# Altium footprint library roboARM.PcbLib: 17 footprints (part 1 of 2)
Each footprint in its own frame and in the unit in brackets; x right, y up, seen from the top. Pads: shape width x height; smd on the part's side, far side on the other; paste and mask are expansions set on the pad; w line width, h text height; cw(c..) or ccw(c..) is an arc to the next point about the centre after c.
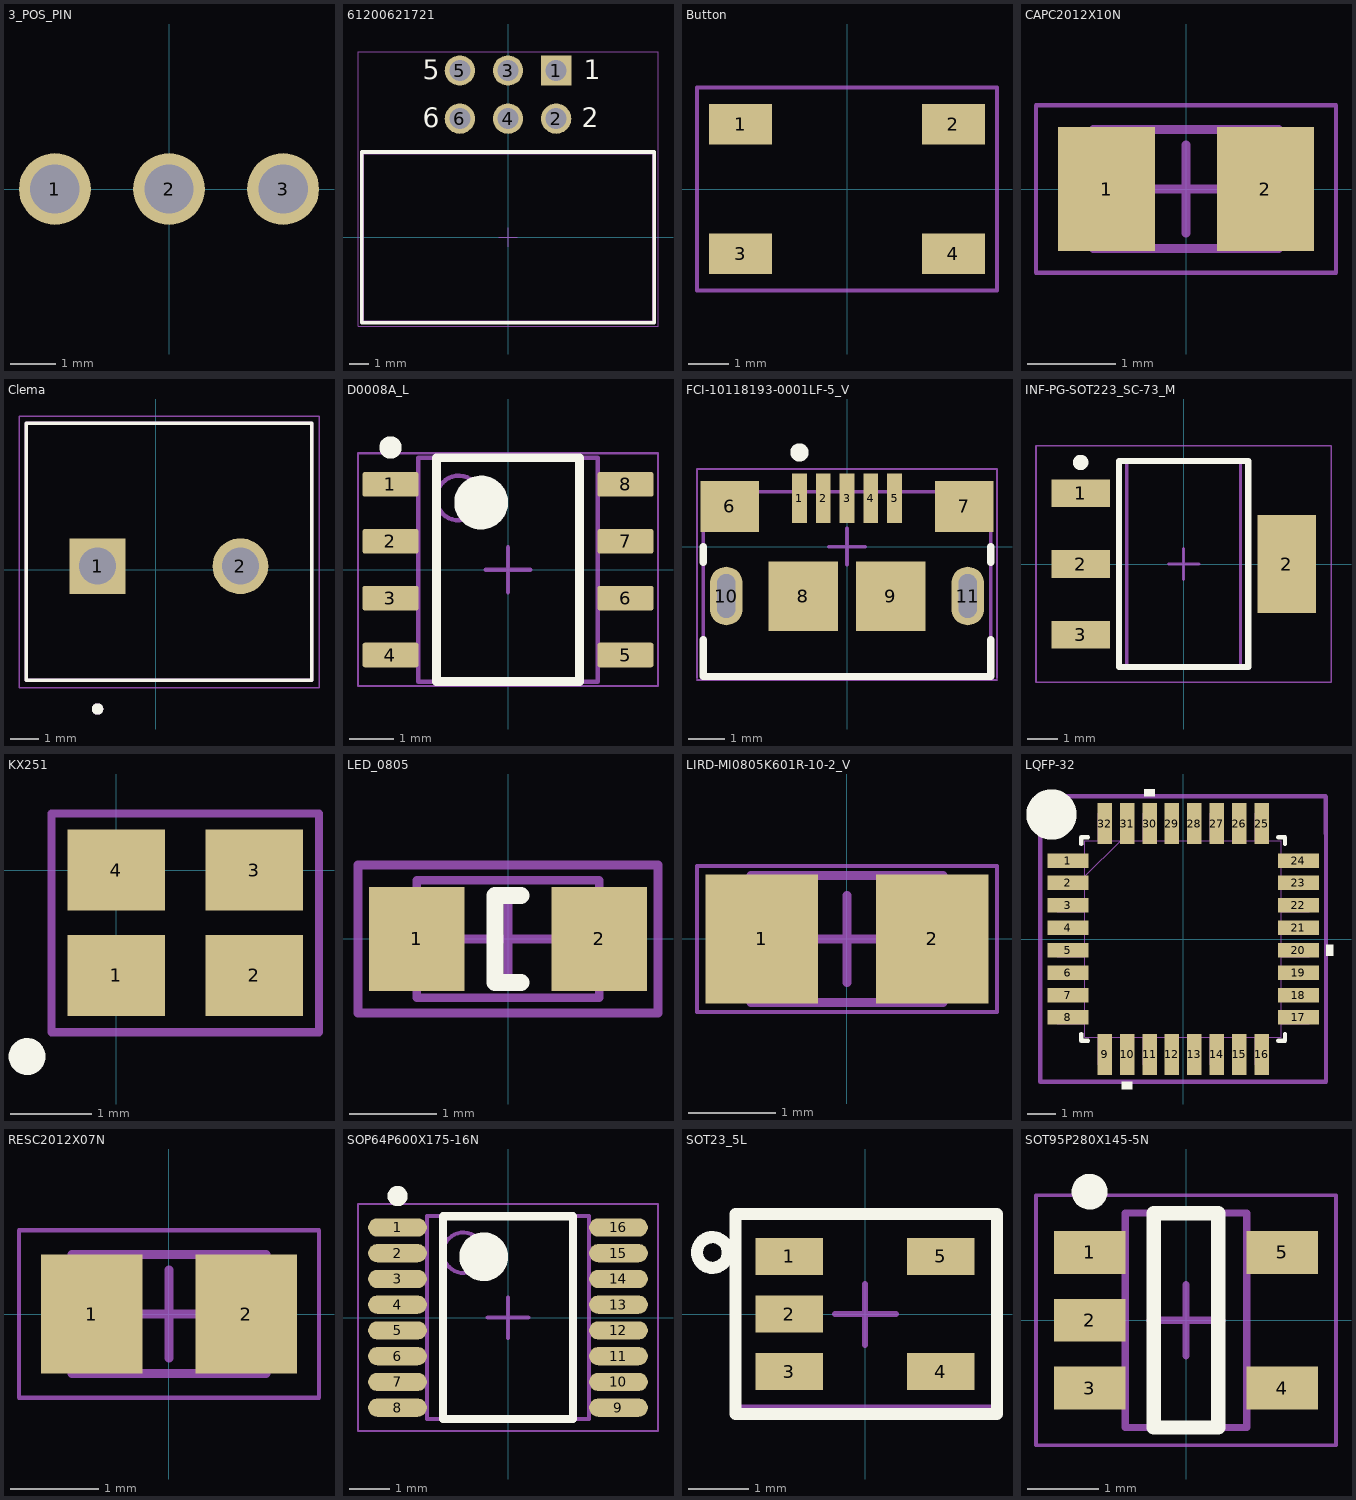
[diagram p0: the footprints below, top view; thin cyan lines are the x and y axes]

## 3_POS_PIN [mm]
pads (3):
  round 1.6 hole 1.1: 1(-2.54,0) 2(0,0) 3(2.54,0)
3D body "PR20C03VBDN.STEP": height 8.64, standoff -3, extent -3.81,-1.165 3.81,1.375

## 61200621721 [mm] "6 pins, right angled, gold plating"
height 9.1
pads (6):
  rect 1.6x1.6 hole 1.1: 1(2.54,8.805)
  round 1.6 hole 1.1: 2(2.54,6.265) 3(0,8.805) 4(0,6.265) 5(-2.54,8.805) 6(-2.54,6.265)
Top Overlay:
  lines w0.2: -7.715,-4.5 7.715,-4.5 7.715,4.5 -7.715,4.5 -7.715,-4.5
  text "6" at -4.5,5.8 h1.02
  text "1" at 4,8.34 h1.02
  text "2" at 3.9,5.8 h1.02
  text "5" at -4.5,8.34 h1.02
Mechanical 13:
  lines w0.1: -7.64,-4.425 7.64,-4.425 7.64,4.425 -7.64,4.425 -7.64,-4.425
Mechanical 15:
  lines w0.05: -0.5,0 0.5,0 ; 0,-0.5 0,0.5 ; -7.915,-4.7 -7.915,9.805 7.915,9.805 7.915,-4.7 -7.915,-4.7
3D body "61200621721.stp": height 9.23, standoff -2.88, extent -7.64,-4.425 7.64,9.125

## Button [mm]
pads (4):
  rect 1.55x1 smd: 1(-2.625,1.6) 2(2.625,1.6) 3(-2.625,-1.6) 4(2.625,-1.6)
Mechanical 15:
  lines w0.1: -3.7,-2.5 3.7,-2.5 3.7,2.5 -3.7,2.5 -3.7,-2.5
3D body "Tact Switch SMD 4.5x4.5mm.stp": height 3.8, standoff 0, extent -3.75,-2.25 3.75,2.25

## CAPC2012X10N [mm] "Chip Capacitor, 2-Leads, Body 2,00x1,25mm, IPC Medium Density"
height 1
pads (2):
  rect 1.1x1.4 smd: 1(-0.9,0) 2(0.9,0)
Mechanical 13:
  lines w0.1: -1.05,-0.675 -1.05,0.675 1.05,0.675 1.05,-0.675 -1.05,-0.675
Mechanical 15:
  lines w0.05: -1.7,-0.95 -1.7,0.95 1.7,0.95 1.7,-0.95 -1.7,-0.95
  lines w0.1: -0.5,0 0.5,0 ; 0,-0.5 0,0.5
3D body "CAPC2012X10N.step": height 1, standoff 0, extent -1.05,-0.675 1.05,0.675

## Clema [mm]
pads (2):
  rect 1.95x1.95 hole 1.3: 1(-2.032,0.127)
  round 1.95 hole 1.3: 2(2.968,0.127)
Top Overlay:
  circle w0.2: c-2.032,-4.873 r0.1
  lines w0.127: -4.532,-3.873 5.468,-3.873 5.468,5.127 -4.532,5.127 -4.532,-3.873
Mechanical 13:
  circle w0.2: c-2.032,-4.873 r0.1
  circle w0.2: c-2.032,-4.873 r0.1
  lines w0.127: -4.532,-3.873 5.468,-3.873 ; -4.532,-3.873 -4.532,5.127 ; -4.532,-3.873 5.468,-3.873 ; -4.532,-3.873 -4.532,5.127 ; -4.532,5.127 5.468,5.127 ; -4.532,5.127 5.468,5.127 ; 5.468,-3.873 5.468,5.127 ; 5.468,-3.873 5.468,5.127
Mechanical 15:
  lines w0.05: -4.782,-4.123 -4.782,5.377 5.718,5.377 5.718,-4.123 -4.782,-4.123
3D body "CUI_DEVICES_TB001-500-P02BE.step": height 12.5, standoff -4.4, extent -5.039,-3.865 5.461,5.135

## D0008A_L [mm] "SOIC, 8-Leads, Body 5x4mm, Pitch 1.27mm, IPC High Density"
height 1.75
pads (8):
  rrect18% 1.25x0.55 smd: 1(-2.625,1.905) 2(-2.625,0.635) 3(-2.625,-0.635) 4(-2.625,-1.905) 5(2.625,-1.905) 6(2.625,-0.635) 7(2.625,0.635) 8(2.625,1.905)
Top Overlay:
  circle w0.6: c-0.6,1.5 r0.3
  circle w0.25: c-2.625,2.73 r0.125
  lines w0.2: -1.6,-2.5 1.6,-2.5 1.6,2.5 -1.6,2.5 -1.6,-2.5
Mechanical 13:
  circle w0.1: c-1.1,1.6 r0.5
  lines w0.1: -2,-2.5 2,-2.5 2,2.5 -2,2.5 -2,-2.5
Mechanical 15:
  lines w0.05: -3.35,-2.6 3.35,-2.6 3.35,2.6 -3.35,2.6 -3.35,-2.6
  lines w0.1: -0.5,0 0.5,0 ; 0,-0.5 0,0.5
3D body "SOIC-8akaD0008AakaM08A.stp": height 1.63, standoff 0, extent -3,-2.45 3,2.45

## FCI-10118193-0001LF-5_V [mm] "Micro, USB-B, 5-Leads, Body 7.86x5.05mm, Pitch 0.65 mm"
pads (11):
  rect 0.4x1.35 smd: 1(-1.3,1.325) 2(-0.65,1.325) 3(0,1.325) 4(0.65,1.325) 5(1.3,1.325)
  rect 1.6x1.4 smd: 6(-3.2,1.1) 7(3.2,1.1)
  rect 1.9x1.9 smd: 8(-1.2,-1.35) 9(1.2,-1.35)
  oval 0.9x1.6 hole 0.5 slot 1.2 at 90 deg: 10(-3.3,-1.35) 11(3.3,-1.35)
Top Overlay:
  circle w0.25: c-1.3,2.575 r0.125
  lines w0.2: -3.93,-2.537 -3.93,-3.55 3.93,-3.55 3.93,-2.537 ; -3.93,-0.428 -3.93,0 ; 3.93,-0.428 3.93,0
Mechanical 13:
  lines w0.1: -3.93,-3.55 3.93,-3.55 3.93,1.5 -3.93,1.5 -3.93,-3.55
Mechanical 15:
  lines w0.05: -4.1,-3.65 4.1,-3.65 ; -4.1,-3.6 -4.1,2.125 4.1,2.125 4.1,-3.6
  lines w0.1: -0.5,0 0.5,0 ; 0,-0.5 0,0.5
3D body "10118193-0001lfc.stp": height 2.83, standoff -0.77, extent -3.928,-4.16 3.929,1.5

## INF-PG-SOT223_SC-73_M [mm] "SOT223, 4-Leads, Body 6.5x3.5mm, Pitch 2.3mm, IPC Low Density"
height 1.8
pads (4):
  rect 1.9x0.9 smd: 1(-3.35,2.3) 2(-3.35,0) 3(-3.35,-2.3)
  rect 1.9x3.2 smd: 2(3.35,0)
Top Overlay:
  circle w0.25: c-3.35,3.3 r0.125
  lines w0.2: -2.1,-3.35 2.1,-3.35 2.1,3.35 -2.1,3.35 -2.1,-3.35
Mechanical 13:
  lines w0.1: -1.85,-3.35 1.85,-3.35 1.85,3.35 -1.85,3.35 -1.85,-3.35
Mechanical 15:
  lines w0.05: -4.8,-3.85 4.8,-3.85 4.8,3.85 -4.8,3.85 -4.8,-3.85
  lines w0.1: -0.5,0 0.5,0 ; 0,-0.5 0,0.5
3D body: height 1.8, standoff 0.1, extent -1.85,-3.35 1.85,3.35

## KX251 [mm]
pads (4):
  rect 1.2x1 smd: 1(0,-1.3) 2(1.7,-1.3) 3(1.7,0) 4(0,0)
Top Overlay:
  circle w0.254: c-1.1,-2.3 r0.1
Mechanical 15:
  lines w0.1: -0.8,-2 2.5,-2 2.5,0.7 -0.8,0.7 -0.8,-0.2 -0.8,-2
3D body: height 1.17, standoff 0, extent -0.762,-1.905 2.413,0.635

## LED_0805 [mm] "Chip LED, 2-Leads, Body 2.0x1.3mm, IPC Medium Density"
height 0.8
pads (2):
  rect 1.1x1.2 smd: 1(-1.05,0) 2(1.05,0)
Top Overlay:
  lines w0.2: 0.15,-0.5 -0.15,-0.5 -0.15,0.5 0.15,0.5
Mechanical 13:
  lines w0.1: -1.05,-0.675 -1.05,0.675 1.05,0.675 1.05,-0.675 -1.05,-0.675
Mechanical 15:
  lines w0.1: -0.5,0 0.5,0 ; 0,-0.5 0,0.5 ; -1.725,-0.85 -1.725,0.85 1.725,0.85 1.725,-0.85 -1.725,-0.85
3D body "WL-SMCW_0805_LED.stp": height 0.68, standoff -0.02, extent -1,-0.625 1,0.625

## LIRD-MI0805K601R-10-2_V [mm] "Chip Bead, 2-Leads, Body 2.2 x1.45 mm"
height 1.1
pads (2):
  rect 1.285x1.47 smd: 1(-0.972,0) 2(0.972,0)
Mechanical 13:
  lines w0.1: -1.1,-0.725 1.1,-0.725 1.1,0.725 -1.1,0.725 -1.1,-0.725
Mechanical 15:
  lines w0.05: -1.715,-0.835 1.715,-0.835 1.715,0.835 -1.715,0.835 -1.715,-0.835
  lines w0.1: -0.5,0 0.5,0 ; 0,-0.5 0,0.5
3D body "INDC2012X11L23.step": height 1.1, standoff 0, extent -1.1,-0.725 1.1,0.725

## LQFP-32 [mm]
pads (32):
  rect 1.462x0.517 smd paste+0 mask+0: 1(-4.115,2.8) 2(-4.115,2) 3(-4.115,1.2) 4(-4.115,0.4) 5(-4.115,-0.4) 6(-4.115,-1.2) 7(-4.115,-2) 8(-4.115,-2.8) 17(4.115,-2.8) 18(4.115,-2) 19(4.115,-1.2) 20(4.115,-0.4) 21(4.115,0.4) 22(4.115,1.2) 23(4.115,2) 24(4.115,2.8)
  rect 0.517x1.462 smd paste+0 mask+0: 9(-2.8,-4.115) 10(-2,-4.115) 11(-1.2,-4.115) 12(-0.4,-4.115) 13(0.4,-4.115) 14(1.2,-4.115) 15(2,-4.115) 16(2.8,-4.115) 25(2.8,4.115) 26(2,4.115) 27(1.2,4.115) 28(0.4,4.115) 29(-0.4,4.115) 30(-1.2,4.115) 31(-2,4.115) 32(-2.8,4.115)
Top Overlay:
  circle w0.9: c-4.699,4.445 r0.45
  region: -1.01,5.1 -1.391,5.1 -1.391,5.354 -1.01,5.354
  region: 5.1,-0.209 5.354,-0.209 5.354,-0.59 5.1,-0.59
  region: -1.81,-5.1 -2.191,-5.1 -2.191,-5.354 -1.81,-5.354
  lines w0.152: -3.632,-3.391 -3.632,-3.632 -3.391,-3.632 ; -3.632,3.391 -3.632,3.632 -3.391,3.632 ; 3.391,-3.632 3.632,-3.632 3.632,-3.391 ; 3.391,3.632 3.632,3.632 3.632,3.391
Mechanical 13:
  lines w0.025: -3.505,2.235 -2.235,3.505 ; -4.496,-3.029 -3.505,-3.029 -3.505,-2.571 -4.496,-2.571 -4.496,-3.029 ; -4.496,-2.229 -3.505,-2.229 -3.505,-1.771 -4.496,-1.771 -4.496,-2.229 ; -4.496,-1.429 -3.505,-1.429 -3.505,-0.971 -4.496,-0.971 -4.496,-1.429 ; -4.496,-0.629 -3.505,-0.629 -3.505,-0.171 -4.496,-0.171 -4.496,-0.629 ; -4.496,0.171 -3.505,0.171 -3.505,0.629 -4.496,0.629 -4.496,0.171 ; -4.496,0.971 -3.505,0.971 -3.505,1.429 -4.496,1.429 -4.496,0.971 ; -4.496,1.771 -3.505,1.771 -3.505,2.229 -4.496,2.229 -4.496,1.771 ; -4.496,2.571 -3.505,2.571 -3.505,3.029 -4.496,3.029 -4.496,2.571 ; -3.505,-3.505 -3.505,3.505 3.505,3.505 3.505,-3.505 -3.505,-3.505 ; -3.029,-4.496 -2.571,-4.496 -2.571,-3.505 -3.029,-3.505 -3.029,-4.496 ; -3.029,3.505 -3.029,4.496 -2.571,4.496 -2.571,3.505 -3.029,3.505 ; -2.229,-4.496 -1.771,-4.496 -1.771,-3.505 -2.229,-3.505 -2.229,-4.496 ; -2.229,3.505 -2.229,4.496 -1.771,4.496 -1.771,3.505 -2.229,3.505 ; -1.429,-4.496 -0.971,-4.496 -0.971,-3.505 -1.429,-3.505 -1.429,-4.496 ; -1.429,3.505 -1.429,4.496 -0.971,4.496 -0.971,3.505 -1.429,3.505 ; -0.629,-4.496 -0.171,-4.496 -0.171,-3.505 -0.629,-3.505 -0.629,-4.496 ; -0.629,3.505 -0.629,4.496 -0.171,4.496 -0.171,3.505 -0.629,3.505 ; 0.171,-4.496 0.629,-4.496 0.629,-3.505 0.171,-3.505 0.171,-4.496 ; 0.171,3.505 0.171,4.496 0.629,4.496 0.629,3.505 0.171,3.505 ; 0.971,-4.496 1.429,-4.496 1.429,-3.505 0.971,-3.505 0.971,-4.496 ; 0.971,3.505 0.971,4.496 1.429,4.496 1.429,3.505 0.971,3.505 ; 1.771,-4.496 2.229,-4.496 2.229,-3.505 1.771,-3.505 1.771,-4.496 ; 1.771,3.505 1.771,4.496 2.229,4.496 2.229,3.505 1.771,3.505 ; 2.571,-4.496 3.029,-4.496 3.029,-3.505 2.571,-3.505 2.571,-4.496 ; 2.571,3.505 2.571,4.496 3.029,4.496 3.029,3.505 2.571,3.505 ; 3.505,-3.029 4.496,-3.029 4.496,-2.571 3.505,-2.571 3.505,-3.029 ; 3.505,-2.229 4.496,-2.229 4.496,-1.771 3.505,-1.771 3.505,-2.229 ; 3.505,-1.429 4.496,-1.429 4.496,-0.971 3.505,-0.971 3.505,-1.429 ; 3.505,-0.629 4.496,-0.629 4.496,-0.171 3.505,-0.171 3.505,-0.629 ; 3.505,0.171 4.496,0.171 4.496,0.629 3.505,0.629 3.505,0.171 ; 3.505,0.971 4.496,0.971 4.496,1.429 3.505,1.429 3.505,0.971 ; 3.505,1.771 4.496,1.771 4.496,2.229 3.505,2.229 3.505,1.771 ; 3.505,2.571 4.496,2.571 4.496,3.029 3.505,3.029 3.505,2.571
  text "*" at -3.442,2.565 h1.27
Mechanical 15:
  lines w0.152: -5.1,-5.1 -5.1,-3.313 -5.1,5.08 -5.1,5.1 -3.313,5.1 5.08,5.1 5.08,3.759 5.1,3.759 5.1,5.08 5.1,-5.08 5.1,-3.759 5.1,-5.1 -5.1,-5.1
3D body "STM8S003K3T6CTR--3DModel-STEP-56544.STEP": height 1.56, standoff -0.04, extent -4.5,-4.5 4.5,4.5
3D body: height 0.25, standoff 0, extent 0,0 0.254,0.254

## RESC2012X07N [mm] "Chip Resistor, 2-Leads, Body 2,00x1,25mm, IPC Medium Density"
height 0.65
pads (2):
  rect 1.15x1.35 smd: 1(-0.875,0) 2(0.875,0)
Mechanical 13:
  lines w0.1: -1.1,-0.675 -1.1,0.675 1.1,0.675 1.1,-0.675 -1.1,-0.675
Mechanical 15:
  lines w0.05: -1.7,-0.95 -1.7,0.95 1.7,0.95 1.7,-0.95 -1.7,-0.95
  lines w0.1: -0.5,0 0.5,0 ; 0,-0.5 0,0.5
3D body "RESC2012X07N.step": height 0.65, standoff 0, extent -1.1,-0.675 1.1,0.675

## SOP64P600X175-16N [mm] "SOP, 16-Leads, Body 4,90x3,90mm, Pitch 0,64mm, IPC Medium Density"
height 1.76
pads (16):
  oval 1.45x0.45 smd: 1(-2.725,2.222) 2(-2.725,1.587) 3(-2.725,0.953) 4(-2.725,0.318) 5(-2.725,-0.318) 6(-2.725,-0.953) 7(-2.725,-1.587) 8(-2.725,-2.222) 9(2.725,-2.222) 10(2.725,-1.587) 11(2.725,-0.953) 12(2.725,-0.318) 13(2.725,0.318) 14(2.725,0.953) 15(2.725,1.587) 16(2.725,2.222)
Top Overlay:
  circle w0.6: c-0.6,1.5 r0.3
  circle w0.25: c-2.725,2.997 r0.125
  lines w0.2: -1.6,-2.5 1.6,-2.5 1.6,2.5 -1.6,2.5 -1.6,-2.5
Mechanical 13:
  circle w0.1: c-1.1,1.6 r0.5
  lines w0.1: -2,-2.5 2,-2.5 2,2.5 -2,2.5 -2,-2.5
Mechanical 15:
  lines w0.05: -3.7,-2.8 3.7,-2.8 3.7,2.8 -3.7,2.8 -3.7,-2.8
  lines w0.1: -0.5,0 0.5,0 ; 0,-0.5 0,0.5
3D body "SOP64P600X175-16N.step": height 1.75, standoff 0, extent -2.997,-2.5 2.997,2.5

## SOT23_5L [mil] "SOT23_5L, 5-Leads, Body 3.60x2.9mm, Pitch 0.95mm"
height 45.67
pads (5):
  rect 44x24 smd: 1(-49.21,37.4) 2(-49.21,0) 3(-49.21,-37.4) 4(49.21,-37.4) 5(49.21,37.4)
Top Overlay:
  circle w7.87: c-99.21,40 r10
  lines w7.87: -84.21,-65 -84.21,65 85.79,65 85.79,-65 -84.21,-65
Mechanical 15:
  lines w3.94: -84.21,-60.98 -84.21,65 ; -19.37,0 20,0 ; 0,-20 0,19.37 ; 85.79,-60.98 85.79,65
  lines w4: -84.21,-60.98 85.79,-60.98 ; -84.21,65 85.79,65
3D body "WE-TVS_High_Speed_SOT23-5L.stp": height 43.7, standoff -1.97, extent -55.11,-57.09 55.12,57.09

## SOT95P280X145-5N [mm] "SOT23, 5-Leads, Body 2,90x2,80mm, Pitch 0,95mm, IPC Medium Density"
height 1.45
pads (5):
  rect 1x0.6 smd: 1(-1.35,0.95) 2(-1.35,0) 3(-1.35,-0.95) 4(1.35,-0.95) 5(1.35,0.95)
Top Overlay:
  circle w0.25: c-1.35,1.8 r0.125
  lines w0.2: -0.45,-1.5 -0.45,1.5 0.45,1.5 0.45,-1.5 -0.45,-1.5
Mechanical 13:
  lines w0.1: -0.85,-1.5 0.85,-1.5 0.85,1.5 -0.85,1.5 -0.85,-1.5
Mechanical 15:
  lines w0.05: -2.1,-1.75 2.1,-1.75 2.1,1.75 -2.1,1.75 -2.1,-1.75
  lines w0.1: -0.5,0 0.5,0 ; 0,-0.5 0,0.5
3D body "SOT95P280X145-5N.step": height 1.45, standoff 0, extent -1.5,-1.5 1.5,1.5